# EAGLE library part TYPE-C-MIN (library esp32-component-libraries v164)
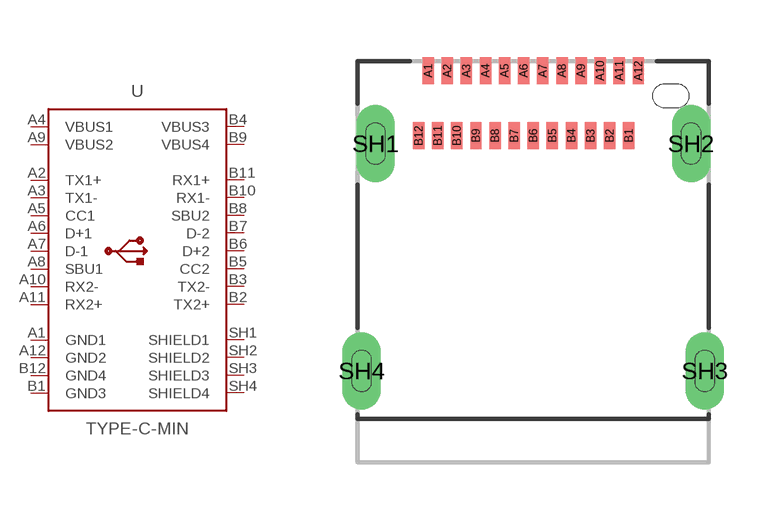
[diagram p6: symbol with the pads of TYPE-C-MIN; footprint TYPE-C-MIN]

Designator prefix -

## TYPE-C-MIN  [TYPE-C-MIN]
A1  GND1  pwr
A2  TX1+
A3  TX1-
A4  VBUS1  pwr
A5  CC1
A6  D+1
A7  D-1
A8  SBU1
A9  VBUS2  pwr
A10  RX2-
A11  RX2+
A12  GND2  pwr
B1  GND3  pwr
B2  TX2+
B3  TX2-
B4  VBUS3  pwr
B5  CC2
B6  D+2
B7  D-2
B8  SBU2
B9  VBUS4  pwr
B10  RX1-
B11  RX1+
B12  GND4  pwr
SH1  SHIELD1  sup
SH2  SHIELD2  sup
SH3  SHIELD3  sup
SH4  SHIELD4  sup

## Footprint TYPE-C-MIN (pad centres in mm)
smd 0.3 x 0.7: A1 -2.75,5; A2 -2.25,5; A3 -1.75,5; A4 -1.25,5; A5 -0.75,5; A6 -0.25,5; A7 0.25,5; A8 0.75,5; A9 1.25,5; A10 1.75,5; A11 2.25,5; A12 2.75,5; B1 2.5,3.3; B2 2,3.3; B3 1.5,3.3; B4 1,3.3; B5 0.5,3.3; B6 0,3.3; B7 -0.5,3.3; B8 -1,3.3; B9 -1.5,3.3; B10 -2,3.3; B11 -2.5,3.3; B12 -3,3.3
drill 0.5 pad 0.8 long: SH1 -4.13,3.09; SH2 4.13,3.09; SH3 4.49,-2.86; SH4 -4.49,-2.86